# EAGLE library part MC100EPT25DTG (library On Semiconductor)
Differential ECL to +3.3V LVTTL Translator
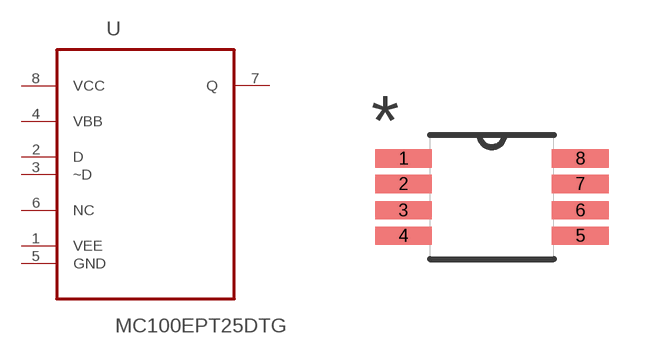
[diagram p136: symbol with the pads of SOP65P490X110-8N; footprint SOP65P490X110-8N]

Designator prefix U

## MC100EPT25DTG (MPN: MC100EPT25DTG; OC_FARNELL: 1192079; OC_NEWARK: 45J0934; PACKAGE: TSSOP-8; SUPPLIER: On Semiconductors)  [SOP65P490X110-8N]
1  VEE  pwr
2  D  in
3  ~D  in
4  VBB  pas
5  GND  pas
6  NC  nc
7  Q  out
8  VCC  pwr

## Footprint SOP65P490X110-8N (pad centres in mm)
smd 1.422 x 0.457: 1 -2.21,0.965; 2 -2.21,0.33; 3 -2.21,-0.33; 4 -2.21,-0.965; 5 2.21,-0.965; 6 2.21,-0.33; 7 2.21,0.33; 8 2.21,0.965